# Altium schematic symbol library Symbol_library.SCHLIB: 171 symbols (part 1 of 2)
Pins are listed as number, name and electrical type; pins without a type are passive.

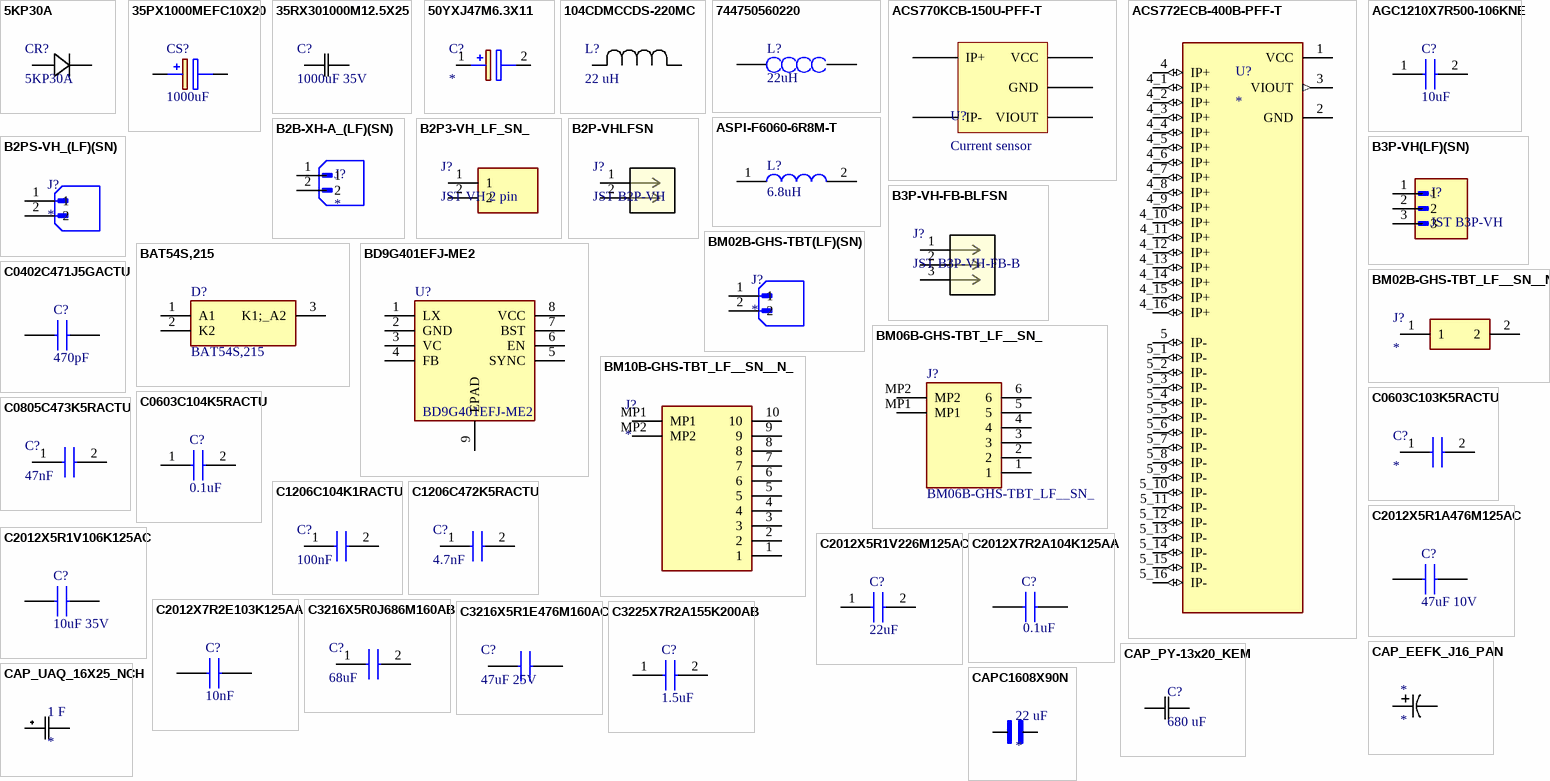
[diagram p0: symbols 5KP30A to CAPC1608X90N]

## 5KP30A
designator CR?
Description; Manufacturer_Name: Vishay; Copyright: Copyright (C) 2026 Ultra Librarian. All rights reserved.; Manufacturer_Part_Number: 5KP30A
footprint DIODE_P600_VIS (Footprint not found)
pins: 1, 2

## 35PX1000MEFC10X20
designator CS?, comment 1000uF
Capacitor Polarised; Manufacturer_Name: Rubycon; Manufacturer_Part_Number: 35PX1000MEFC10X20; Datasheet Link: https://www.rubycon.co.jp/wp-content/uploads/catalog-aluminum/PX.pdf; Height: 21.5mm; Mouser Part Number: 232-35PX1000MEFC10X2; Mouser Price/Stock: https://www.mouser.co.uk/ProductDetail/Rubycon/35PX1000MEFC10X20?qs=T3oQrply3y86%2F1qnNfO%252BAA%3D%3D; Arrow Part Number: 35PX1000MEFC10X20; Arrow Price/Stock: https://www.arrow.com/en/products/35px1000mefc10x20/rubycon?region=nac
footprint CAPPRD500W60D1025H2150
pins: 1 +, 2 -

## 35RX301000M12.5X25
designator C?, comment 1000uF 35V
Manufacturer_Name: Rubycon; Manufacturer_Part_Number: 35RX301000M12.5X25; Copyright: Copyright (C) 2026 Ultra Librarian. All rights reserved.
footprint CAP_RX_12P5X25_RUB (Footprint not found)
pins: 1, 2

## 50YXJ47M6.3X11
designator C?
Capacitor Polarised; Manufacturer_Name: Rubycon; Manufacturer_Part_Number: 50YXJ47M6.3X11; Datasheet Link: https://www.mouser.co.uk/datasheet/2/977/e_YXJ-1601195.pdf; Height: 12.5mm; Mouser Part Number: 232-50YXJ47M6.3X11; Mouser Price/Stock: https://www.mouser.co.uk/ProductDetail/Rubycon/50YXJ47M6.3X11?qs=T3oQrply3y9Y%2FB9KKPf5JQ%3D%3D
footprint CAPPRD250W50D655H1250
pins: 1 +, 2 -

## 104CDMCCDS-220MC
designator L?, comment 22 uH
Bobine de 22 uH, 5 A; Manufacturer_Name: Sumida; Manufacturer_Part_Number: 104CDMCCDS-220MC; Type: Fixed Inductors; Copyright: Copyright (C) 2025 Ultra Librarian. All rights reserved.; ComponentLink1Description: Datasheet; ComponentLink1URL: https://products.sumida.com/products/pdf/104CDMCCDS.pdf
footprint IND_104CDMCCDS_SUM
pins: 1, 2

## 744750560220
designator L?, comment 22uH
Inductor 22mH; Manufacturer_Name: Wurth Elektronik; Manufacturer_Part_Number: 744750560220; Datasheet Link: https://componentsearchengine.com/Datasheets/2/744750560220.pdf; Height: 15.8mm; Mouser Part Number: 710-744750560220; Mouser Price/Stock: https://www.mouser.co.uk/ProductDetail/Wurth-Elektronik/744750560220?qs=HXx4m3XcTe10itAwD7FiZQ%3D%3D; ClassName: PowerModul
footprint 744750560220
pins: 1, 2

## ACS770KCB-150U-PFF-T
designator U?, comment Current sensor
150 A , Unidirectional; ComponentLink1Description: Datasheet; ComponentLink1URL: https://www.allegromicro.com/~/media/Files/Datasheets/ACS770-Datasheet.ashx
footprint Model Name (Footprint not found)
footprint ACS770xCB-PFF - Sans Via-in-Pad (Current sensor)
pins: 1 VCC, 2 GND, 3 VIOUT, 4 IP+, 5 IP-

## ACS772ECB-400B-PFF-T
designator U?
Current Sensor 400A 1 Channel Hall Effect Bidirectional 5-CB Formed Leads, PFF; MF: Allegro MicroSystems; MP: ACS772ECB-400B-PFF-T; SnapEDA_Link: https://www.snapeda.com/parts/ACS772ECB-400B-PFF-T/Allegro/view-part/?ref=snap; Package: 5-CB-5 Allegro MicroSystems LLC; Value: *; Check_prices: https://www.snapeda.com/parts/ACS772ECB-400B-PFF-T/Allegro/view-part/?ref=eda
footprint XDCR_ACS772ECB-400B-PFF-T (Footprint not found)
pins: 1 VCC (power), 2 GND (power), 3 VIOUT (out), 4 IP+ (io), 4_1 IP+ (io), 4_2 IP+ (io), 4_3 IP+ (io), 4_4 IP+ (io), 4_5 IP+ (io), 4_6 IP+ (io), 4_7 IP+ (io), 4_8 IP+ (io), 4_9 IP+ (io), 4_10 IP+ (io), 4_11 IP+ (io), 4_12 IP+ (io), 4_13 IP+ (io), 4_14 IP+ (io), 4_15 IP+ (io), 4_16 IP+ (io), 5 IP- (io), 5_1 IP- (io), 5_2 IP- (io), 5_3 IP- (io), 5_4 IP- (io), 5_5 IP- (io), 5_6 IP- (io), 5_7 IP- (io), 5_8 IP- (io), 5_9 IP- (io), 5_10 IP- (io), 5_11 IP- (io), 5_12 IP- (io), 5_13 IP- (io), 5_14 IP- (io), 5_15 IP- (io), 5_16 IP- (io)

## AGC1210X7R500-106KNE
designator C?, comment 10uF
Capacitor; Manufacturer_Name: Venkel; Manufacturer_Part_Number: AGC1210X7R500-106KNE; Datasheet Link: https://data.venkel.com/documents/agc-series?force=1; Height: 2.8mm
footprint CAPC3225X280N (Footprint not found)
pins: 1, 2

## ASPI-F6060-6R8M-T
designator L?, comment 6.8uH
Inductor; Manufacturer_Name: ABRACON; Manufacturer_Part_Number: ASPI-F6060-6R8M-T; Datasheet Link: https://abracon.com/datasheets/ASPI-F6060.pdf; Height: 6mm
footprint ASPIF60606R8MT
pins: 1, 2

## B2B-XH-A_(LF)(SN)
designator J?
Connector Header Through Hole 2 position 0.098 (2.50mm); MF: JST Sales; MP: B2B-XH-A (LF)(SN); SnapEDA_Link: https://www.snapeda.com/parts/B2B-XH-A%20(LF)(SN)/JST+Sales+America+Inc./view-part/?ref=snap; Package: None; Value: *; Check_prices: https://www.snapeda.com/parts/B2B-XH-A%20(LF)(SN)/JST+Sales+America+Inc./view-part/?ref=eda
footprint JST_B2B-XH-A_(LF)(SN)
pins: 1, 2

## B2P3-VH_LF_SN_
designator J?, comment JST VH 2 pin
Connector; Manufacturer_Name: JST (JAPAN SOLDERLESS TERMINALS); Manufacturer_Part_Number: B2P3-VH(LF(SN); Datasheet Link: https://www.jst-mfg.com/product/pdf/eng/eVH.pdf; Height: 10.9mm; Arrow Part Number: B2P3-VH(LF(SN); Arrow Price/Stock: https://www.arrow.com/en/products/b2p3-vh-lf-sn/jst-manufacturing?utm_currency=USD&region=europe
footprint SHDR2W114P0X792_1X2_1182X850X1090P
pins: 1, 2

## B2P-VHLFSN
designator J?, comment JST B2P-VH
JST VH 2 pin; Manufacturer_Part_Number: B2P-VH(LF)(SN); Copyright: Copyright (C) 2025 Ultra Librarian. All rights reserved.; Manufacturer_Name: JST; RefDes: RefDes; Type: Type
footprint CONN_B2P-VH_JST (Footprint not found)
pins: 1, 2

## B2PS-VH_(LF)(SN)
designator J?
Connector Header Through Hole, Right Angle 2 position 0.156 (3.96mm); MF: JST; MP: B2PS-VH (LF)(SN); SnapEDA_Link: https://www.snapeda.com/parts/B2PS-VH%20(LF)(SN)/JST/view-part/?ref=snap; Package: None; Value: *; Check_prices: https://www.snapeda.com/parts/B2PS-VH%20(LF)(SN)/JST/view-part/?ref=eda
footprint JST_B2PS-VH_(LF)(SN)
pins: 1, 2

## B3P-VH(LF)(SN)
designator J?, comment JST B3P-VH
JST VH 3 PIN; MF: JST Sales; MP: B3P-VH(LF)(SN); SnapEDA_Link: https://www.snapeda.com/parts/B3P-VH(LF)(SN)/JST/view-part/?ref=snap; Package: None; Value: *; Check_prices: https://www.snapeda.com/parts/B3P-VH(LF)(SN)/JST/view-part/?ref=eda
footprint JST_B3P-VH(LF)(SN)
pins: 1, 2, 3

## B3P-VH-FB-BLFSN
designator J?, comment JST B3P-VH-FB-B
JST VH-FB-B 3 pin; Manufacturer_Part_Number: B3P-VH-FB-B(LF)(SN); Copyright: Copyright (C) 2025 Ultra Librarian. All rights reserved.; Manufacturer_Name: JST; RefDes: RefDes; Type: Type
footprint CONN_B3P-VH-FB-B_JST (Footprint not found)
pins: 1, 2, 3

## BAT54S,215
designator D?
Schottky Diode; Manufacturer_Name: Nexperia; Datasheet Link: https://assets.nexperia.com/documents/data-sheet/BAT54S.pdf; Height: 1.1mm; Manufacturer_Part_Number: BAT54S,215; Mouser Part Number: 771-BAT54S-T/R; Mouser Price/Stock: https://www.mouser.co.uk/ProductDetail/Nexperia/BAT54S215?qs=me8TqzrmIYVOaf3j7zH0Wg%3D%3D; Arrow Part Number: BAT54S,215; Arrow Price/Stock: https://www.arrow.com/en/products/bat54s215/nexperia?utm_currency=USD&region=europe
footprint SOT95P230X110-3N
pins: 1 A1, 2 K2, 3 K1;_A2

## BD9G401EFJ-ME2
designator U?
Buck converter; Manufacturer_Name: ROHM Semiconductor; Datasheet Link: https://componentsearchengine.com/Datasheets/1/BD9G401EFJ-ME2.pdf; Height: 1mm; Manufacturer_Part_Number: BD9G401EFJ-ME2; Mouser Part Number: 755-BD9G401EFJ-ME2; Mouser Price/Stock: https://www.mouser.co.uk/ProductDetail/ROHM-Semiconductor/BD9G401EFJ-ME2?qs=HXFqYaX1Q2yXryPBxafgDg%3D%3D; ClassName: PowerModul
footprint SOIC127P600X100-9N
pins: 1 LX, 2 GND, 3 VC, 4 FB, 5 SYNC, 6 EN, 7 BST, 8 VCC, 9 EPAD

## BM02B-GHS-TBT(LF)(SN)
designator J?
Connector Header Surface Mount 2 position 0.049 (1.25mm); MF: JST Sales; MP: BM02B-GHS-TBT (LF)(SN); SnapEDA_Link: https://www.snapeda.com/parts/BM02B-GHS-TBT%20(LF)(SN)/JST/view-part/?ref=snap; Package: None; Value: *; Check_prices: https://www.snapeda.com/parts/BM02B-GHS-TBT%20(LF)(SN)/JST/view-part/?ref=eda
footprint JST_BM02B-GHS-TBT(LF)(SN)
pins: 1, 2

## BM02B-GHS-TBT_LF__SN__N_
designator J?
Connector; Manufacturer_Name: JST (JAPAN SOLDERLESS TERMINALS); Manufacturer_Part_Number: BM02B-GHS-TBT(LF)(SN)(N); Datasheet Link: http://www.jst-mfg.com/product/pdf/eng/eGH.pdf; Arrow Part Number: BM02B-GHS-TBT(LF)(SN)(N); Arrow Price/Stock: https://www.arrow.com/en/products/bm02b-ghs-tbt-lf-sn-n/jst-manufacturing?region=nac
footprint BM02B-GHS-TBT_1
pins: 1, 2

## BM06B-GHS-TBT_LF__SN_
designator J?
Connector; Manufacturer_Name: JST (JAPAN SOLDERLESS TERMINALS); Manufacturer_Part_Number: BM06B-GHS-TBT(LF)(SN); Datasheet Link: https://datasheet.lcsc.com/szlcsc/2004111131_JST-Sales-America-BM06B-GHS-TBT-LF-SN_C495534.pdf; Height: 4.05mm; Mouser Part Number: 306-BM06BGHSTBTLFSNN; Mouser Price/Stock: https://www.mouser.co.uk/ProductDetail/JST-Commercial/BM06B-GHS-TBTLFSN?qs=cdbOS8ANM9CObKjnhD04mw%3D%3D
footprint BM06BGHSTBTLFSN
pins: 1, 2, 3, 4, 5, 6, MP1, MP2

## BM10B-GHS-TBT_LF__SN__N_
designator J?
Connector; Manufacturer_Name: JST (JAPAN SOLDERLESS TERMINALS); Manufacturer_Part_Number: BM10B-GHS-TBT(LF)(SN)(N); Datasheet Link: http://www.jst-mfg.com/product/pdf/eng/eGH.pdf; Height: 4.05mm; Arrow Part Number: BM10B-GHS-TBT(LF)(SN)(N); Arrow Price/Stock: https://www.arrow.com/en/products/bm10b-ghs-tbt-lf-sn-n/jst-manufacturing?utm_currency=USD&region=europe
footprint BM10BGHSTBTLFSNN
pins: 1, 2, 3, 4, 5, 6, 7, 8, 9, 10, MP1, MP2

## C0402C471J5GACTU
designator C?, comment 470pF
Capacitor; Manufacturer_Name: KEMET; Manufacturer_Part_Number: C0402C471J5GACTU; Datasheet Link: https://content.kemet.com/datasheets/KEM_C1002_X7R_SMD.pdf; Height: 0.55mm; Mouser Part Number: 80-C0402C471J5G; Mouser Price/Stock: https://www.mouser.com/Search/Refine.aspx?Keyword=80-C0402C471J5G; Arrow Part Number: C0402C471J5GACTU; Arrow Price/Stock: https://www.arrow.com/en/products/c0402c471j5gactu/kemet-corporation
footprint C0402C104J4RACTU
pins: 1, 2

## C0603C103K5RACTU
designator C?
Capacitor; Manufacturer_Name: KEMET; Manufacturer_Part_Number: C0603C103K5RACTU; Datasheet Link: https://content.kemet.com/datasheets/KEM_C1002_X7R_SMD.pdf; Height: 0.87mm; Mouser Part Number: 80-C0603C103K5R; Mouser Price/Stock: https://www.mouser.co.uk/ProductDetail/KEMET/C0603C103K5RACTU?qs=aZBT8IJKz4hu1X55tMAU6Q%3D%3D; Arrow Part Number: C0603C103K5RACTU; Arrow Price/Stock: https://www.arrow.com/en/products/c0603c103k5ractu/kemet-corporation?utm_currency=USD&region=nac
footprint C0603
pins: 1, 2

## C0603C104K5RACTU
designator C?, comment 0.1uF
Capacitor; Manufacturer_Name: KEMET; Manufacturer_Part_Number: C0603C104K5RACTU; Datasheet Link: https://content.kemet.com/datasheets/KEM_C1002_X7R_SMD.pdf; Height: 0.87mm; Mouser Part Number: 80-C0603C104K5R; Mouser Price/Stock: https://www.mouser.co.uk/ProductDetail/KEMET/C0603C104K5RACTU?qs=l5k%252BbMnNDkkVcnZPSAaaiQ%3D%3D; Arrow Part Number: C0603C104K5RACTU; Arrow Price/Stock: https://www.arrow.com/en/products/c0603c104k5ractu/kemet-corporation?utm_currency=USD&region=nac
footprint C0603 (Footprint not found)
pins: 1, 2

## C0805C473K5RACTU
designator C?, comment 47nF
Capacitor; Manufacturer_Name: KEMET; Manufacturer_Part_Number: C0805C473K5RACTU; Datasheet Link: https://content.kemet.com/datasheets/KEM_C1002_X7R_SMD.pdf; Height: 1.1mm; Mouser Part Number: 80-C0805C473K5R; Mouser Price/Stock: https://www.mouser.co.uk/ProductDetail/KEMET/C0805C473K5RACTU?qs=Uoqk2AqgWNqGMH8rYaKw2g%3D%3D; Arrow Part Number: C0805C473K5RACTU; Arrow Price/Stock: https://www.arrow.com/en/products/c0805c473k5ractu/kemet-corporation?region=nac
footprint CAPC220145_90N_KEM-M
pins: 1, 2

## C1206C104K1RACTU
designator C?, comment 100nF
Capacitor, 100V max; Manufacturer_Name: KEMET; Manufacturer_Part_Number: C1206C104K1RACTU; Datasheet Link: https://content.kemet.com/datasheets/KEM_C1002_X7R_SMD.pdf; Mouser Part Number: 80-C1206C104K1R; Mouser Price/Stock: https://www.mouser.co.uk/ProductDetail/KEMET/C1206C104K1RACTU?qs=zXJuHl05TF3PSnPdHxXWPA%3D%3D; Arrow Part Number: C1206C104K1RACTU; Arrow Price/Stock: https://www.arrow.com/en/products/c1206c104k1ractu/kemet-corporation?region=nac
footprint C1206
pins: 1, 2

## C1206C472K5RACTU
designator C?, comment 4.7nF
Capacitor, 50V max; Manufacturer_Name: KEMET; Manufacturer_Part_Number: C1206C472K5RACTU; Datasheet Link: https://content.kemet.com/datasheets/KEM_C1002_X7R_SMD.pdf; Mouser Part Number: 80-C1206C472K5R; Mouser Price/Stock: https://www.mouser.co.uk/ProductDetail/KEMET/C1206C472K5RACTU?qs=mFbQsTr%2Fh7%2F0OG5diKY6aA%3D%3D; Arrow Part Number: C1206C472K5RACTU; Arrow Price/Stock: https://www.arrow.com/en/products/c1206c472k5ractu/kemet-corporation?utm_currency=USD&region=nac
footprint C1206
pins: 1, 2

## C2012X5R1A476M125AC
designator C?, comment 47uF 10V
Capacitor; Manufacturer_Name: TDK; Manufacturer_Part_Number: C2012X5R1A476M125AC; Datasheet Link: https://product.tdk.com/info/en/catalog/datasheets/mlcc_commercial_midvoltage_en.pdf; Height: 1.45mm; Mouser Part Number: 810-C2012X5R1A476M; Mouser Price/Stock: https://www.mouser.co.uk/ProductDetail/TDK/C2012X5R1A476M125AC?qs=LcTL%2F5vFEzGyFw5hxP%2FMXw%3D%3D; Arrow Part Number: C2012X5R1A476M125AC; Arrow Price/Stock: https://www.arrow.com/en/products/c2012x5r1a476m125ac/tdk?region=nac; ClassName: PowerModul
footprint CAPC2012X145N
pins: 1, 2

## C2012X5R1V106K125AC
designator C?, comment 10uF 35V
Capacitor; Manufacturer_Name: TDK; Manufacturer_Part_Number: C2012X5R1V106K125AC; Datasheet Link: https://product.tdk.com/info/en/catalog/datasheets/mlcc_commercial_midvoltage_en.pdf; Height: 1.45mm; Mouser Part Number: 810-C2012X5R1V106K1C; Mouser Price/Stock: https://www.mouser.co.uk/ProductDetail/TDK/C2012X5R1V106K125AC?qs=6JAMGB%252BEdkwcwonKbQLeCg%3D%3D; Arrow Part Number: C2012X5R1V106K125AC; Arrow Price/Stock: https://www.arrow.com/en/products/c2012x5r1v106k125ac/tdk?region=europe; ClassName: PowerModul
footprint CAPC2012X145N
pins: 1, 2

## C2012X5R1V226M125AC
designator C?, comment 22uF
Capacitor, 35V; Manufacturer_Name: TDK; Manufacturer_Part_Number: C2012X5R1V226M125AC; Datasheet Link: https://product.tdk.com/info/en/catalog/datasheets/mlcc_commercial_midvoltage_en.pdf; Height: 1.45mm; Mouser Part Number: 810-C2012X5R1V226MAC; Mouser Price/Stock: https://www.mouser.co.uk/ProductDetail/TDK/C2012X5R1V226M125AC?qs=6JAMGB%252BEdkyUk0d2Mu2IrQ%3D%3D; Arrow Part Number: C2012X5R1V226M125AC; Arrow Price/Stock: https://www.arrow.com/en/products/c2012x5r1v226m125ac/tdk?utm_currency=USD&region=nac
footprint CAPC2012X145N
pins: 1, 2

## C2012X7R2A104K125AA
designator C?, comment 0.1uF
Capacitor; Manufacturer_Name: TDK; Manufacturer_Part_Number: C2012X7R2A104K125AA; Datasheet Link: https://product.tdk.com/info/en/catalog/datasheets/mlcc_commercial_midvoltage_en.pdf; Height: 1.45mm; Mouser Part Number: 810-C2012X7R2A104K; Mouser Price/Stock: https://www.mouser.co.uk/ProductDetail/TDK/C2012X7R2A104K125AA?qs=NRhsANhppD9J0ZsT2%2Fo%2F7Q%3D%3D; Arrow Part Number: C2012X7R2A104K125AA; Arrow Price/Stock: https://www.arrow.com/en/products/c2012x7r2a104k125aa/tdk?region=europe; ClassName: PowerModul
footprint CAPC2012X145N
pins: 1, 2

## C2012X7R2E103K125AA
designator C?, comment 10nF
Capacitor; Manufacturer_Name: TDK; Manufacturer_Part_Number: C2012X7R2E103K125AA; Datasheet Link: https://product.tdk.com/info/en/catalog/datasheets/mlcc_commercial_midvoltage_en.pdf; Height: 1.45mm; Mouser Part Number: 810-C2012X7R2E103K; Mouser Price/Stock: https://www.mouser.co.uk/ProductDetail/TDK/C2012X7R2E103K125AA?qs=NRhsANhppD%2FvPjIeAxskbg%3D%3D; Arrow Part Number: C2012X7R2E103K125AA; Arrow Price/Stock: https://www.arrow.com/en/products/c2012x7r2e103k125aa/tdk?region=nac; ClassName: PowerModul
footprint CAPC2012X145N
pins: 1, 2

## C3216X5R0J686M160AB
designator C?, comment 68uF
Capacitor de 68uF; Manufacturer_Name: TDK; Manufacturer_Part_Number: C3216X5R0J686M160AB; Datasheet Link: https://product.tdk.com/info/en/catalog/datasheets/mlcc_commercial_midvoltage_en.pdf; Height: 1.8mm; Mouser Part Number: 810-C3216X5R0J686M1B; Mouser Price/Stock: https://www.mouser.co.uk/ProductDetail/TDK/C3216X5R0J686M160AB?qs=xLDY6iXSiQYzVupG6zVrXw%3D%3D; Arrow Part Number: C3216X5R0J686M160AB; Arrow Price/Stock: https://www.arrow.com/en/products/c3216x5r0j686m160ab/tdk?utm_currency=USD&region=nac
footprint CAPC3216X180N
pins: 1, 2

## C3216X5R1E476M160AC
designator C?, comment 47uF 25V
Capacitor 47 uF; Manufacturer_Name: TDK; Manufacturer_Part_Number: C3216X5R1E476M160AC.; Datasheet Link: https://media.digikey.com/pdf/Data%20Sheets/TDK%20PDFs/mlcc_commercial_general_Rev2018.pdf; Height: 1.8mm; Mouser Part Number: N/A; Mouser Price/Stock: https://www.mouser.com/Search/Refine.aspx?Keyword=N%2FA
footprint CAPC3216X180N
pins: 1, 2

## C3225X7R2A155K200AB
designator C?, comment 1.5uF
Capacitor; Manufacturer_Name: TDK; Manufacturer_Part_Number: C3225X7R2A155K200AB; Datasheet Link: https://product.tdk.com/info/en/catalog/datasheets/mlcc_commercial_midvoltage_en.pdf; Height: 2mm; Mouser Part Number: 810-C3225X7R2A155K2B; Mouser Price/Stock: https://www.mouser.co.uk/ProductDetail/TDK/C3225X7R2A155K200AB?qs=xLDY6iXSiQYhBLhobQfC5A%3D%3D; Arrow Part Number: C3225X7R2A155K200AB; Arrow Price/Stock: https://www.arrow.com/en/products/c3225x7r2a155k200ab/tdk
footprint CAPC3225X200N (Footprint not found)
pins: 1, 2

## CAP_EEFK_J16_PAN
designator *
Capacitor 680 uF Polarized
footprint CAP_EEFK_J16_PAN
pins: 1, 2

## CAP_PY-13x20_KEM
designator C?, comment 680 uF
680 uF Capacitor Through Hole; ComponentLink1Description: Manufacturer Link; ComponentLink1URL: https://www.digikey.ca/fr/products/detail/kemet/A759PY687M1HAAE026/6196519?s=N4IgjCBcoEwAwBYCcVQGMoDMCGAbAzgKYA0IA9lANogBsAHHAAQCtAYiALqkAOALlCACqAOwCWvAPKYAsoWz4ArgCdCIAL6l4AdhTQQGSDgIlyVEAFYmANU49%2BkIWMky5iletIBaGKn1ReSgomFJDU5pxqGiA%2BofrY3Nho4mRKEUA
footprint CAP_PY-13x20_KEM
pins: 1, 2

## CAP_UAQ_16X25_NCH
designator 1 F
Capacitor 1000 uF; ComponentLink1Description: Manufacturer Link; ComponentLink1URL: https://www.digikey.ca/en/products/detail/nichicon/UBT1V102MHD8/2597431?utm_source=chatgpt.com
footprint CAP_UAQ_16X25_NCH
pins: 1, 2

## CAPC1608X90N
designator 22 uF
Capacitor Ceramic 1 uF 50 V; ComponentLink1Description: Manufacturer Link; ComponentLink1URL: https://www.digikey.ca/fr/products/detail/samsung-electro-mechanics/CL10A105KB8NNNC/3887518?msockid=24619636816564831ea7832b805e650e
footprint CAPC1608X90N
pins: 1, 2

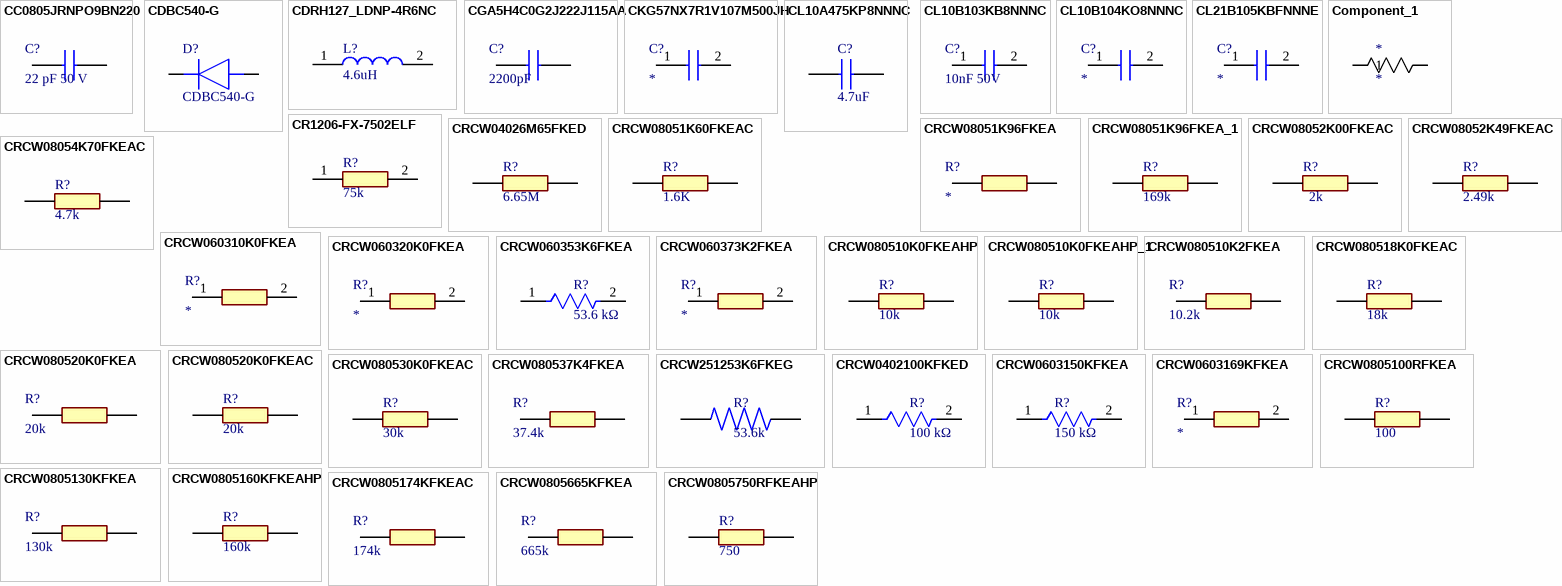
[diagram p1: symbols CC0805JRNPO9BN220 to CRCW0805750RFKEAHP]

## CC0805JRNPO9BN220
designator C?, comment 22 pF 50 V
Capacitor; Manufacturer_Name: YAGEO; Manufacturer_Part_Number: CC0805JRNPO9BN220; Datasheet Link: https://componentsearchengine.com/Datasheets/2/CC0805JRNPO9BN220.pdf; Height: 0.7mm; Mouser Part Number: 603-CC805JRNPO9BN220; Mouser Price/Stock: https://www.mouser.co.uk/ProductDetail/YAGEO/CC0805JRNPO9BN220?qs=vTakOoo5QyK71b5vkghGmg%3D%3D
footprint CAPC2012X70N (Footprint not found)
pins: 1, 2

## CDBC540-G
designator D?
Diode; Manufacturer_Name: Comchip Technology; Datasheet Link: https://eu.mouser.com/datasheet/2/80/CDBC520-HF_Thru195340._CDBC5100-HF_RevB-1480991.pdf; Height: 2.9mm; Manufacturer_Part_Number: CDBC540-G; Mouser Part Number: 750-CDBC540-G; Mouser Price/Stock: https://www.mouser.co.uk/ProductDetail/Comchip-Technology/CDBC540-G?qs=tw%252BuQ%2FB6PO2ExpPYY64Vzw%3D%3D; Arrow Part Number: CDBC540-G; Arrow Price/Stock: https://www.arrow.com/en/products/cdbc540-g/comchip-technology?utm_currency=USD&region=nac
footprint DIOM8059X290N
pins: 1 K, 2 A

## CDRH127_LDNP-4R6NC
designator L?, comment 4.6uH
Inductor; Manufacturer_Name: Sumida; Manufacturer_Part_Number: CDRH127/LDNP-4R6NC; Datasheet Link: https://datasheet.datasheetarchive.com/originals/distributors/Datasheets-DGA11/2188085.pdf; Height: 8mm; Mouser Part Number: 851-CDRH127LDNP4R6NC; Mouser Price/Stock: https://www.mouser.co.uk/ProductDetail/Sumida/CDRH127-LDNP-4R6NC?qs=WUEw9%252Ba7LqamztZJnA%2FuRg%3D%3D; Arrow Part Number: CDRH127/LDNP-4R6NC; Arrow Price/Stock: https://www.arrow.com/en/products/cdrh127ldnp-4r6nc/sumida?utm_currency=USD&region=nac
footprint INDM120120X800N
pins: 1, 2

## CGA5H4C0G2J222J115AA
designator C?, comment 2200pF
Capacitor 2200pF 630V; Manufacturer_Name: TDK; Manufacturer_Part_Number: CGA5H4C0G2J222J115AA; Datasheet Link: http://docs-europe.electrocomponents.com/webdocs/14e9/0900766b814e9125.pdf; Height: 1.3mm
footprint CAPC3216X130N
pins: 1, 2

## CKG57NX7R1V107M500JH
designator C?
Capacitor; Manufacturer_Name: TDK; Manufacturer_Part_Number: CKG57NX7R1V107M500JH; Datasheet Link: https://product.tdk.com/system/files/dam/doc/product/capacitor/ceramic/mlcc/catalog/mlcc_commercial_megacap_en.pdf; Height: 5.5mm; Mouser Part Number: 810-CKG57NX7R1V107M5; Mouser Price/Stock: https://www.mouser.co.uk/ProductDetail/TDK/CKG57NX7R1V107M500JH?qs=Rp5uXu7WBW8tv2hUloxhjw%3D%3D; Arrow Part Number: CKG57NX7R1V107M500JH; Arrow Price/Stock: null?region=nac
footprint CAPC6050X550N (Footprint not found)
pins: 1, 2

## CL10A475KP8NNNC
designator C?, comment 4.7uF
Capacitor; Manufacturer_Name: SAMSUNG; Manufacturer_Part_Number: CL10A475KP8NNNC; Datasheet Link: https://www.arrow.com/en/products/cl10a475kp8nnnc/samsung-electro-mechanics; Height: 0.9mm; Mouser Part Number: 187-CL10A475KP8NNNC; Mouser Price/Stock: https://www.mouser.co.uk/ProductDetail/Samsung-Electro-Mechanics/CL10A475KP8NNNC?qs=hqM3L16%252BxlfQRmkWsZz5vA%3D%3D; Arrow Part Number: CL10A475KP8NNNC; Arrow Price/Stock: https://www.arrow.com/en/products/cl10a475kp8nnnc/samsung-electro-mechanics?region=nac
footprint CAPC1608X90N
pins: 1, 2

## CL10B103KB8NNNC
designator C?, comment 10nF 50V
Capacitor; Manufacturer_Name: SAMSUNG; Manufacturer_Part_Number: CL10B103KB8NNNC; Datasheet Link: https://product.samsungsem.com/mlcc/CL10B103KB8NNN.do; Height: 0.9mm; Mouser Part Number: 187-CL10B103KB8NNNC; Mouser Price/Stock: https://www.mouser.co.uk/ProductDetail/Samsung-Electro-Mechanics/CL10B103KB8NNNC?qs=349EhDEZ59pAsZxZjVI0UQ%3D%3D; Arrow Part Number: CL10B103KB8NNNC; Arrow Price/Stock: https://www.arrow.com/en/products/cl10b103kb8nnnc/samsung-electro-mechanics?utm_currency=USD&region=europe
footprint CAPC1608X90N
pins: 1, 2

## CL10B104KO8NNNC
designator C?
Capacitor; Manufacturer_Name: SAMSUNG; Manufacturer_Part_Number: CL10B104KO8NNNC; Datasheet Link: https://datasheet.datasheetarchive.com/originals/distributors/Datasheets_SAMA/482ee8b8a1396945e1abac0da9778f7f.pdf; Height: 0.9mm; Mouser Part Number: 187-CL10B104KO8NNNC; Mouser Price/Stock: https://www.mouser.co.uk/ProductDetail/Samsung-Electro-Mechanics/CL10B104KO8NNNC?qs=349EhDEZ59pqoJFRnk4a8w%3D%3D; Arrow Part Number: CL10B104KO8NNNC; Arrow Price/Stock: https://www.arrow.com/en/products/cl10b104ko8nnnc/samsung-electro-mechanics?utm_currency=USD&region=europe
footprint CAPC1608X90N
pins: 1, 2

## CL21B105KBFNNNE
designator C?
Capacitor; Manufacturer_Name: SAMSUNG; Manufacturer_Part_Number: CL21B105KBFNNNE; Datasheet Link: https://componentsearchengine.com/Datasheets/2/CL21B105KBFNNNE.pdf; Height: 1.35mm; Mouser Part Number: 187-CL21B105KBFNNNE; Mouser Price/Stock: https://www.mouser.co.uk/ProductDetail/Samsung-Electro-Mechanics/CL21B105KBFNNNE?qs=yOVawPpwOwmddQEBPU6Y9A%3D%3D; Arrow Part Number: CL21B105KBFNNNE; Arrow Price/Stock: https://www.arrow.com/en/products/cl21b105kbfnnne/samsung-electro-mechanics?utm_currency=USD&region=europe
footprint CAPC2012X135N
pins: 1, 2

## Component_1
designator *
footprint STA_RMCF0402_STP
pins: 1, 2

## CR1206-FX-7502ELF
designator R?, comment 75k
Resistor; Manufacturer_Name: Bourns; Manufacturer_Part_Number: CR1206-FX-7502ELF; Datasheet Link: http://www.bourns.com/data/global/pdfs/CHPREZTR.pdf; Height: 0.75mm; Mouser Part Number: 652-CR1206FX-7502ELF; Mouser Price/Stock: https://www.mouser.co.uk/ProductDetail/Bourns/CR1206-FX-7502ELF?qs=x5wsLs3ZZ83CFlrcVX0CWw%3D%3D
footprint RESC3216X75N
pins: 1, 2

## CRCW04026M65FKED
designator R?, comment 6.65M
Resistor; Manufacturer_Name: Vishay; Manufacturer_Part_Number: CRCW04026M65FKED; Datasheet Link: http://www.vishay.com/docs/20035/dcrcwe3.pdf; Height: 0.4mm
footprint RESC1005X40N
pins: 1, 2

## CRCW08051K60FKEAC
designator R?, comment 1.6K
Resistor; Manufacturer_Name: Vishay; Manufacturer_Part_Number: CRCW08051K60FKEAC; Datasheet Link: https://www.arrow.com/en/products/crcw08051k60fkeac/vishay; Height: 0.6mm; Mouser Part Number: 71-CRCW08051K60FKEAC; Mouser Price/Stock: https://www.mouser.co.uk/ProductDetail/Vishay-Dale/CRCW08051K60FKEAC?qs=E3Y5ESvWgWMJaZYHQus8LQ%3D%3D; Arrow Part Number: CRCW08051K60FKEAC; Arrow Price/Stock: https://www.arrow.com/en/products/crcw08051k60fkeac/vishay
footprint RESC2012X60N
pins: 1, 2

## CRCW08051K96FKEA
designator R?
Resistor; Manufacturer_Name: Vishay; Manufacturer_Part_Number: CRCW08051K96FKEA; Datasheet Link: http://www.vishay.com/docs/20035/dcrcwe3.pdf; Height: 0.5mm; Mouser Part Number: 71-CRCW08051K96FKEA; Mouser Price/Stock: https://www.mouser.co.uk/ProductDetail/Vishay-Dale/CRCW08051K96FKEA?qs=1CkV0QOCgMpA%2F6GTgXIN%2Fg%3D%3D; Arrow Part Number: CRCW08051K96FKEA; Arrow Price/Stock: https://www.arrow.com/en/products/crcw08051k96fkea/vishay?region=nac
footprint RESC2012X50N
pins: 1, 2

## CRCW08051K96FKEA_1
designator R?, comment 169k
Resistor; Manufacturer_Name: Vishay; Manufacturer_Part_Number: CRCW08051K96FKEA; Datasheet Link: http://www.vishay.com/docs/20035/dcrcwe3.pdf; Height: 0.5mm; Mouser Part Number: 71-CRCW08051K96FKEA; Mouser Price/Stock: https://www.mouser.co.uk/ProductDetail/Vishay-Dale/CRCW08051K96FKEA?qs=1CkV0QOCgMpA%2F6GTgXIN%2Fg%3D%3D; Arrow Part Number: CRCW08051K96FKEA; Arrow Price/Stock: https://www.arrow.com/en/products/crcw08051k96fkea/vishay?region=nac
footprint RESC2012X50N
pins: 1, 2

## CRCW08052K00FKEAC
designator R?, comment 2k
Resistor; Manufacturer_Name: Vishay; Manufacturer_Part_Number: CRCW08052K00FKEAC; Datasheet Link: http://www.vishay.com/docs/28773/crcwce3.pdf; Height: 0.6mm; Mouser Part Number: 71-CRCW08052K00FKEAC; Mouser Price/Stock: https://www.mouser.co.uk/ProductDetail/Vishay-Dale/CRCW08052K00FKEAC?qs=E3Y5ESvWgWP6floxGsbShA%3D%3D; Arrow Part Number: CRCW08052K00FKEAC; Arrow Price/Stock: https://www.arrow.com/en/products/crcw08052k00fkeac/vishay?utm_currency=USD&region=nac
footprint RESC2012X60N
pins: 1, 2

## CRCW08052K49FKEAC
designator R?, comment 2.49k
Resistor; Manufacturer_Name: Vishay; Manufacturer_Part_Number: CRCW08052K49FKEAC; Datasheet Link: https://componentsearchengine.com/Datasheets/1/CRCW08052K49FKEAC.pdf; Height: 0.5mm; Mouser Part Number: 71-CRCW08052K49FKEAC; Mouser Price/Stock: https://www.mouser.com/Search/Refine.aspx?Keyword=71-CRCW08052K49FKEAC; Arrow Part Number: CRCW08052K49FKEAC; Arrow Price/Stock: https://www.arrow.com/en/products/crcw08052k49fkeac/vishay
footprint RESC2012X50N
pins: 1, 2

## CRCW08054K70FKEAC
designator R?, comment 4.7k
Resistor; Manufacturer_Name: Vishay; Manufacturer_Part_Number: CRCW08054K70FKEAC; Datasheet Link: https://mouser.componentsearchengine.com/Datasheets/1/CRCW08054K70FKEAC.pdf; Height: 0.6mm; Mouser Part Number: 71-CRCW08054K70FKEAC; Mouser Price/Stock: https://www.mouser.co.uk/ProductDetail/Vishay-Dale/CRCW08054K70FKEAC?qs=E3Y5ESvWgWOQAAVugewEHA%3D%3D; Arrow Part Number: CRCW08054K70FKEAC; Arrow Price/Stock: https://www.arrow.com/en/products/crcw08054k70fkeac/vishay?region=nac; ClassName: PowerModul
footprint RESC2012X60N
pins: 1, 2

## CRCW060310K0FKEA
designator R?
Resistor; Manufacturer_Name: Vishay; Manufacturer_Part_Number: CRCW060310K0FKEA; Datasheet Link: http://www.vishay.com/docs/20035/dcrcwe3.pdf; Height: 0.5mm; Mouser Part Number: 71-CRCW0603-10K-E3; Mouser Price/Stock: https://www.mouser.co.uk/ProductDetail/Vishay-Dale/CRCW060310K0FKEA?qs=pAO1Z172M84BVnhDjtnsoQ%3D%3D; Arrow Part Number: CRCW060310K0FKEA; Arrow Price/Stock: https://www.arrow.com/en/products/crcw060310k0fkea/vishay.html?utm_currency=USD&region=nac
footprint RESC1608X50N
pins: 1, 2

## CRCW060320K0FKEA
designator R?
Resistor; Manufacturer_Name: Vishay; Manufacturer_Part_Number: CRCW060320K0FKEA; Datasheet Link: http://www.vishay.com/docs/20035/dcrcwe3.pdf; Height: 0.5mm; Mouser Part Number: 71-CRCW0603-20K-E3; Mouser Price/Stock: https://www.mouser.co.uk/ProductDetail/Vishay-Dale/CRCW060320K0FKEA?qs=QZuYiDxzHajCQLs7n6RwKw%3D%3D; Arrow Part Number: CRCW060320K0FKEA; Arrow Price/Stock: https://www.arrow.com/en/products/crcw060320k0fkea/vishay?utm_currency=USD&region=nac
footprint RESC1608X50N
pins: 1, 2

## CRCW060353K6FKEA
designator R?, comment 53.6 kΩ
footprint CRCW060353K6FKEA
pins: 1, 2

## CRCW060373K2FKEA
designator R?
Resistor; Manufacturer_Name: Vishay; Manufacturer_Part_Number: CRCW060373K2FKEA; Datasheet Link: http://www.vishay.com/docs/20035/dcrcwe3.pdf; Height: 0.5mm; Mouser Part Number: 71-CRCW0603-73.2K-E3; Mouser Price/Stock: https://www.mouser.co.uk/ProductDetail/Vishay-Dale/CRCW060373K2FKEA?qs=wtKLRx7HFiWbNo88VwpoiQ%3D%3D; Arrow Part Number: CRCW060373K2FKEA; Arrow Price/Stock: https://www.arrow.com/en/products/crcw060373k2fkea/vishay?region=nac
footprint RESC1608X50N
pins: 1, 2

## CRCW080510K0FKEAHP
designator R?, comment 10k
Resistor; Manufacturer_Name: Vishay; Manufacturer_Part_Number: CRCW080510K0FKEAHP; Datasheet Link: https://componentsearchengine.com/Datasheets/1/CRCW08051R00FKEAHP.pdf; Height: 0.6mm; Mouser Part Number: 71-CRCW080510K0FKEAH; Mouser Price/Stock: https://www.mouser.co.uk/ProductDetail/Vishay-Dale/CRCW080510K0FKEAHP?qs=FlFvgi4rxBybVOW6oiRQjA%3D%3D; Arrow Part Number: CRCW080510K0FKEAHP; Arrow Price/Stock: https://www.arrow.com/en/products/crcw080510k0fkeahp/vishay?utm_currency=USD&region=europe; ClassName: PowerModul
footprint RESC2012X60N
pins: 1, 2

## CRCW080510K0FKEAHP_1
designator R?, comment 10k
Resistor; Manufacturer_Name: Vishay; Manufacturer_Part_Number: CRCW080510K0FKEAHP; Datasheet Link: https://componentsearchengine.com/Datasheets/1/CRCW08051R00FKEAHP.pdf; Height: 0.6mm; Mouser Part Number: 71-CRCW080510K0FKEAH; Mouser Price/Stock: https://www.mouser.co.uk/ProductDetail/Vishay-Dale/CRCW080510K0FKEAHP?qs=FlFvgi4rxBybVOW6oiRQjA%3D%3D; Arrow Part Number: CRCW080510K0FKEAHP; Arrow Price/Stock: https://www.arrow.com/en/products/crcw080510k0fkeahp/vishay?utm_currency=USD&region=europe; ClassName: PowerModul
footprint RESC2012X60N
pins: 1, 2

## CRCW080510K2FKEA
designator R?, comment 10.2k
Resistor; Manufacturer_Name: Vishay; Manufacturer_Part_Number: CRCW080510K2FKEA; Datasheet Link: http://www.vishay.com/docs/20035/dcrcwe3.pdf; Height: 0.5mm; Mouser Part Number: 71-CRCW0805-10.2K-E3; Mouser Price/Stock: https://www.mouser.co.uk/ProductDetail/Vishay-Dale/CRCW080510K2FKEA?qs=LOX6nxTstibTXRK16X5NEQ%3D%3D; Arrow Part Number: CRCW080510K2FKEA; Arrow Price/Stock: https://www.arrow.com/en/products/crcw080510k2fkea/vishay?region=nac
footprint RESC2012X50N
pins: 1, 2

## CRCW080518K0FKEAC
designator R?, comment 18k
Resistor; Manufacturer_Name: Vishay; Manufacturer_Part_Number: CRCW080518K0FKEAC; Datasheet Link: https://www.arrow.com/en/products/crcw080518k0fkeac/vishay?region=nac; Height: 0.5mm; Mouser Part Number: 71-CRCW080518K0FKEAC; Mouser Price/Stock: https://www.mouser.co.uk/ProductDetail/Vishay-Dale/CRCW080518K0FKEAC?qs=E3Y5ESvWgWPSwNx6fNHotQ%3D%3D; Arrow Part Number: CRCW080518K0FKEAC; Arrow Price/Stock: https://www.arrow.com/en/products/crcw080518k0fkeac/vishay?region=nac
footprint RESC2012X50N
pins: 1, 2

## CRCW080520K0FKEA
designator R?, comment 20k
Resistor; Manufacturer_Name: Vishay; Manufacturer_Part_Number: CRCW080520K0FKEA; Datasheet Link: http://www.vishay.com/docs/20035/dcrcwe3.pdf; Height: 0.5mm; Mouser Part Number: 71-CRCW0805-20K-E3; Mouser Price/Stock: https://www.mouser.co.uk/ProductDetail/Vishay-Dale/CRCW080520K0FKEA?qs=t6Mf8e9K%2Ful9pWSqXxFD1w%3D%3D; Arrow Part Number: CRCW080520K0FKEA; Arrow Price/Stock: https://www.arrow.com/en/products/crcw080520k0fkea/vishay
footprint RESC2012X50N
pins: 1, 2

## CRCW080520K0FKEAC
designator R?, comment 20k
Resistor; Manufacturer_Name: Vishay; Manufacturer_Part_Number: CRCW080520K0FKEAC; Datasheet Link: https://mouser.componentsearchengine.com/Datasheets/1/CRCW080520K0FKEAC.pdf; Height: 0.6mm; Mouser Part Number: 71-CRCW080520K0FKEAC; Mouser Price/Stock: https://www.mouser.co.uk/ProductDetail/Vishay-Dale/CRCW080520K0FKEAC?qs=E3Y5ESvWgWNXVYIsIc630g%3D%3D; Arrow Part Number: CRCW080520K0FKEAC; Arrow Price/Stock: https://www.arrow.com/en/products/crcw080520k0fkeac/vishay
footprint RESC2012X60N
pins: 1, 2

## CRCW080530K0FKEAC
designator R?, comment 30k
Resistor; Manufacturer_Name: Vishay; Manufacturer_Part_Number: CRCW080530K0FKEAC; Datasheet Link: https://mouser.componentsearchengine.com/Datasheets/1/CRCW080530K0FKEAC.pdf; Height: 0.6mm; Mouser Part Number: 71-CRCW080530K0FKEAC; Mouser Price/Stock: https://www.mouser.co.uk/ProductDetail/Vishay-Dale/CRCW080530K0FKEAC?qs=E3Y5ESvWgWMYq9MgiyaMow%3D%3D; Arrow Part Number: CRCW080530K0FKEAC; Arrow Price/Stock: https://www.arrow.com/en/products/crcw080530k0fkeac/vishay?region=nac; ClassName: PowerModul
footprint RESC2012X60N
pins: 1, 2

## CRCW080537K4FKEA
designator R?, comment 37.4k
Resistor; Manufacturer_Name: Vishay; Manufacturer_Part_Number: CRCW080537K4FKEA; Datasheet Link: http://www.vishay.com/docs/20035/dcrcwe3.pdf; Height: 0.5mm; Mouser Part Number: 71-CRCW0805-37.4K-E3; Mouser Price/Stock: https://www.mouser.co.uk/ProductDetail/Vishay-Dale/CRCW080537K4FKEA?qs=ofC1ORbyWJfwcxfoRR0MKw%3D%3D
footprint RESC2012X50N
pins: 1, 2

## CRCW251253K6FKEG
designator R?, comment 53.6k
MF: {'manufacturer': u'Vishay Dale'}; MP: CRCW251253K6FKEG; Package: None; Price: None; Value: *; Availability: Unavailable
footprint RESC6331X70N
pins: 1, 2

## CRCW0402100KFKED
designator R?, comment 100 kΩ
footprint CRCW0402100KFKED
pins: 1, 2

## CRCW0603150KFKEA
designator R?, comment 150 kΩ
footprint CRCW0603150KFKEA
pins: 1, 2

## CRCW0603169KFKEA
designator R?
Resistor; Manufacturer_Name: Vishay; Manufacturer_Part_Number: CRCW0603169KFKEA; Datasheet Link: http://www.vishay.com/docs/20035/dcrcwe3.pdf; Height: 0.5mm; Mouser Part Number: 71-CRCW0603-169K-E3; Mouser Price/Stock: https://www.mouser.co.uk/ProductDetail/Vishay-Dale/CRCW0603169KFKEA?qs=Mig2RDu1Bfp8Hd1hUWkJEw%3D%3D; Arrow Part Number: CRCW0603169KFKEA; Arrow Price/Stock: https://www.arrow.com/en/products/crcw0603169kfkea/vishay
footprint RESC1608X50N
pins: 1, 2

## CRCW0805100RFKEA
designator R?, comment 100
Resistor; Manufacturer_Name: Vishay; Manufacturer_Part_Number: CRCW0805100RFKEA; Datasheet Link: http://www.vishay.com/docs/20035/dcrcwe3.pdf; Height: 0.5mm; Mouser Part Number: 71-CRCW0805-100-E3; Mouser Price/Stock: https://www.mouser.co.uk/ProductDetail/Vishay-Dale/CRCW0805100RFKEA?qs=LOX6nxTstiYDPDKmuLyNLw%3D%3D; Arrow Part Number: CRCW0805100RFKEA; Arrow Price/Stock: https://www.arrow.com/en/products/crcw0805100rfkea/vishay?utm_currency=USD&region=nac
footprint RESC2012X50N
pins: 1, 2

## CRCW0805130KFKEA
designator R?, comment 130k
Resistor; Manufacturer_Name: Vishay; Manufacturer_Part_Number: CRCW0805130KFKEA; Datasheet Link: http://www.vishay.com/docs/20035/dcrcwe3.pdf; Height: 0.5mm; Mouser Part Number: 71-CRCW0805-130K-E3; Mouser Price/Stock: https://www.mouser.co.uk/ProductDetail/Vishay-Dale/CRCW0805130KFKEA?qs=0y7Riw94L4iHKWUxGOctIA%3D%3D; Arrow Part Number: CRCW0805130KFKEA; Arrow Price/Stock: https://www.arrow.com/en/products/crcw0805130kfkea/vishay
footprint RESC2012X50N
pins: 1, 2

## CRCW0805160KFKEAHP
designator R?, comment 160k
Resistor; Manufacturer_Name: Vishay; Manufacturer_Part_Number: CRCW0805160KFKEAHP; Datasheet Link: https://componentsearchengine.com/Datasheets/1/CRCW08051R00FKEAHP.pdf; Height: 0.6mm; ClassName: PowerModul
footprint RESC2012X60N
pins: 1, 2

## CRCW0805174KFKEAC
designator R?, comment 174k
Resistor; Manufacturer_Name: Vishay; Manufacturer_Part_Number: CRCW0805174KFKEAC; Datasheet Link: https://www.vishay.com/docs/28773/crcwce3.pdf; Height: 0.6mm; Mouser Part Number: 71-CRCW0805174KFKEAC; Mouser Price/Stock: https://www.mouser.co.uk/ProductDetail/Vishay-Dale/CRCW0805174KFKEAC?qs=E3Y5ESvWgWPIzoNrwC7WHw%3D%3D
footprint RESC2012X60N
pins: 1, 2

## CRCW0805665KFKEA
designator R?, comment 665k
Resistor; Manufacturer_Name: Vishay; Manufacturer_Part_Number: CRCW0805665KFKEA; Datasheet Link: http://www.vishay.com/docs/20035/dcrcwe3.pdf; Height: 0.5mm
footprint RESC2012X50N
pins: 1, 2

## CRCW0805750RFKEAHP
designator R?, comment 750
Resistor; Manufacturer_Name: Vishay; Manufacturer_Part_Number: CRCW0805750RFKEAHP; Datasheet Link: https://componentsearchengine.com/Datasheets/1/CRCW08051R00FKEAHP.pdf; Height: 0.6mm; Mouser Part Number: 71-CRCW0805750RFKEAH; Mouser Price/Stock: https://www.mouser.co.uk/ProductDetail/Vishay-Dale/CRCW0805750RFKEAHP?qs=40TFAHZMFvdp5ouInDDfaw%3D%3D; Arrow Part Number: CRCW0805750RFKEAHP; Arrow Price/Stock: https://www.arrow.com/en/products/crcw0805750rfkeahp/vishay?region=nac
footprint RESC2012X60N
pins: 1, 2

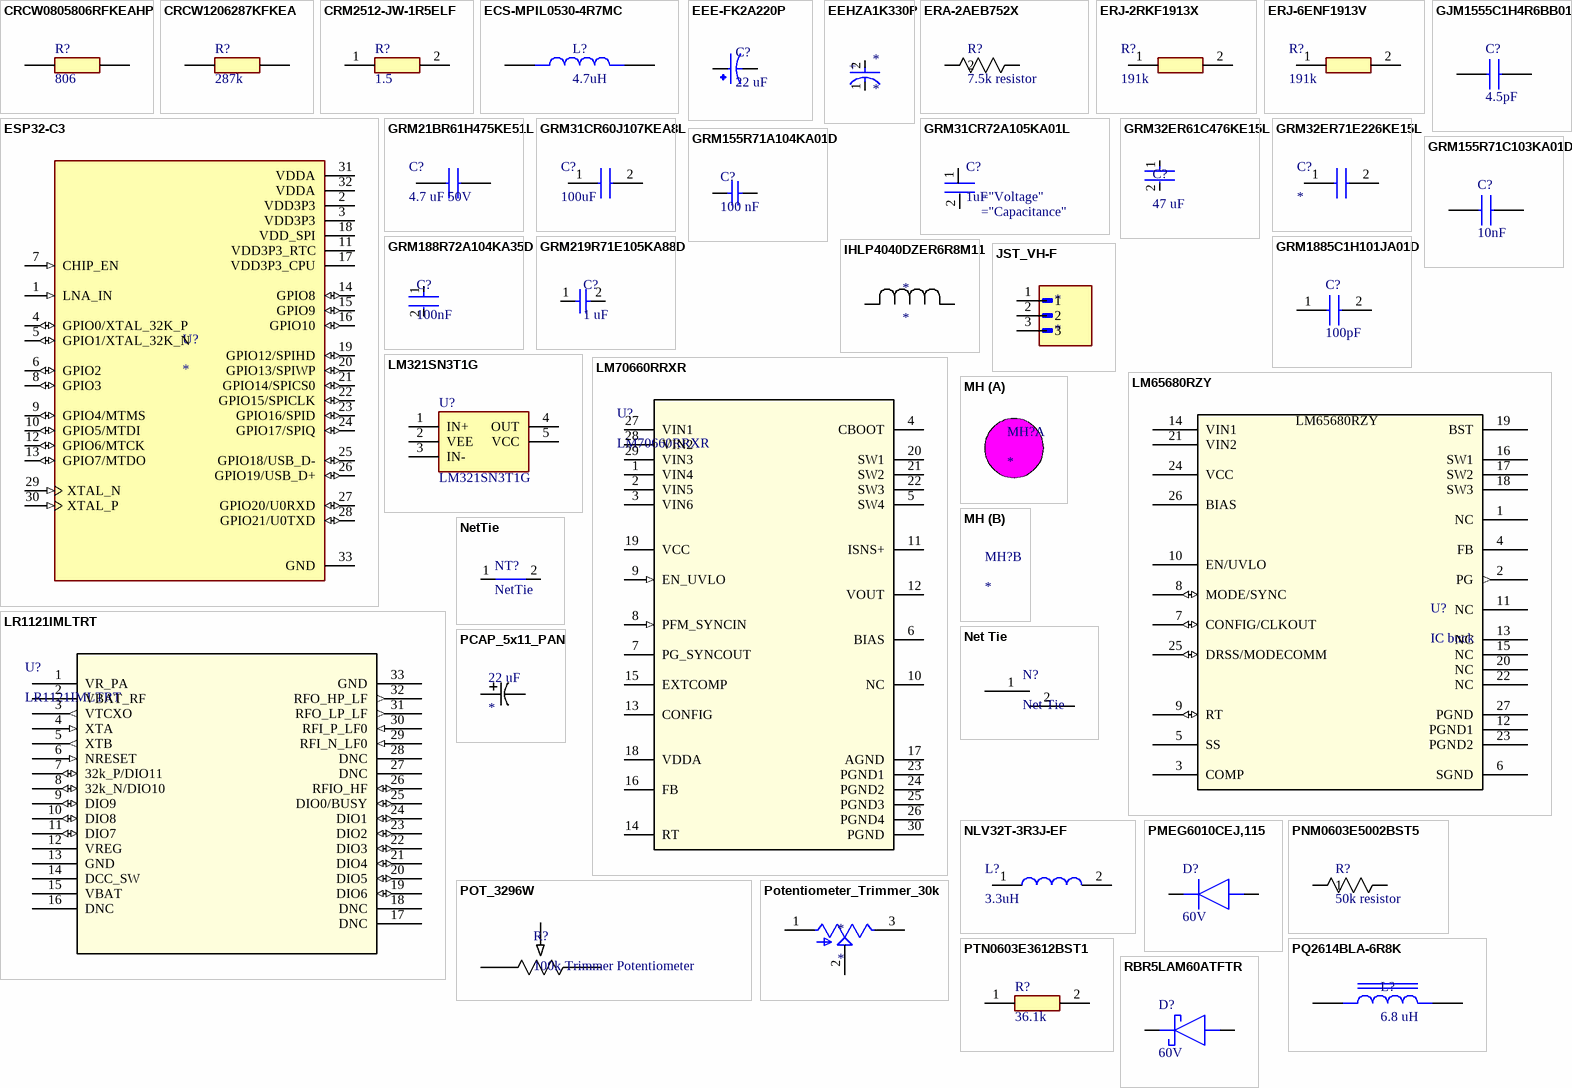
[diagram p2: symbols CRCW0805806RFKEAHP to RBR5LAM60ATFTR]

## CRCW0805806RFKEAHP
designator R?, comment 806
Resistor; Manufacturer_Name: Vishay; Manufacturer_Part_Number: CRCW0805806RFKEAHP; Datasheet Link: https://componentsearchengine.com/Datasheets/1/CRCW08051R00FKEAHP.pdf; Height: 0.6mm
footprint RESC2012X60N
pins: 1, 2

## CRCW1206287KFKEA
designator R?, comment 287k
Resistor; Manufacturer_Name: Vishay; Manufacturer_Part_Number: CRCW1206287KFKEA; Height: 0.6mm; Mouser Part Number: 71-CRCW1206-287K-E3; Mouser Price/Stock: https://www.mouser.com/Search/Refine.aspx?Keyword=71-CRCW1206-287K-E3
footprint RESC3216X60N
pins: 1, 2

## CRM2512-JW-1R5ELF
designator R?, comment 1.5
Resistor 2W; Manufacturer_Name: Bourns; Manufacturer_Part_Number: CRM2512-JW-1R5ELF; Datasheet Link: http://www.bourns.com/data/global/pdfs/CRM0805_1206_2010.pdf; Height: 0.8mm; Mouser Part Number: 652-CRM2512JW1R5ELF; Mouser Price/Stock: https://www.mouser.co.uk/ProductDetail/Bourns/CRM2512-JW-1R5ELF?qs=Zq5ylnUbLm5fOyBG7EkMBA%3D%3D
footprint RESC6331X80N (Footprint not found)
pins: 1, 2

## ECS-MPIL0530-4R7MC
designator L?, comment 4.7uH
Inductor 4.7 µH Shielded Molded  5 A 60mOhm Max Nonstandard -; MF: ECS Inc.; MP: ECS-MPIL0530-4R7MC; SnapEDA_Link: https://www.snapeda.com/parts/ECS-MPIL0530-4R7MC/ECS/view-part/?ref=snap; Package: ECS-MPIL0530-0-2 ECS; Value: *; Check_prices: https://www.snapeda.com/parts/ECS-MPIL0530-4R7MC/ECS/view-part/?ref=eda
footprint IND_ECS-MPIL0530-4R7MC (Footprint not found)
pins: 1, 2

## EEE-FK2A220P
designator C?, comment 22 uF
footprint EEE-FK2A220P
pins: 1, 2

## EEHZA1K330P
designator *
footprint EEHZA1K330P
pins: 1 C, 2 A
text: +

## ERA-2AEB752X
designator R?, comment 7.5k resistor
Resistor 7.5k SMD; ComponentLink1Description: Digikey Link; ComponentLink1URL: https://www.digikey.ca/en/products/detail/panasonic-industry/ERA-2AEB752X/1706026
footprint RES_ERA2AEB750X
pins: 1, 2

## ERJ-2RKF1913X
designator R?, comment 191k
Resistor; Manufacturer_Name: Panasonic; Manufacturer_Part_Number: ERJ-2RKF1913X; Datasheet Link: https://industrial.panasonic.com/cdbs/www-data/pdf/RDA0000/AOA0000C86.pdf; Height: 0.4mm; Mouser Part Number: 667-ERJ-2RKF1913X; Mouser Price/Stock: https://www.mouser.com/Search/Refine.aspx?Keyword=667-ERJ-2RKF1913X; Arrow Part Number: ERJ-2RKF1913X; Arrow Price/Stock: https://www.arrow.com/en/products/erj-2rkf1913x/panasonic
footprint ERJ2RKD1004X
pins: 1, 2

## ERJ-6ENF1913V
designator R?, comment 191k
Resistor; Manufacturer_Name: Panasonic; Manufacturer_Part_Number: ERJ-6ENF1913V; Datasheet Link: https://industrial.panasonic.com/cdbs/www-data/pdf/RDA0000/AOA0000C84.pdf; Height: 0.7mm; Mouser Part Number: 667-ERJ-6ENF1913V; Mouser Price/Stock: https://www.mouser.com/Search/Refine.aspx?Keyword=667-ERJ-6ENF1913V; Arrow Part Number: ERJ-6ENF1913V; Arrow Price/Stock: https://www.arrow.com/en/products/erj-6enf1913v/panasonic
footprint ERJ6ENF1000V
pins: 1, 2

## ESP32-C3
designator U?
WiFi Modules (802.11) (Engineering Samples Only) SMD IC ESP32-C3, RISC-V single-core MCU, 2.4G Wi-Fi & BLE 5.0 combo, QFN 32-pin, 5*5 mm, 40 ~ 105C; MF: Espressif Systems; SnapEDA_Link: https://www.snapeda.com/parts/ESP32-C3/Espressif+Systems/view-part/?ref=snap; Package: VFQFN-32 Espressif Systems; Value: *; MP: ESP32-C3; Check_prices: https://www.snapeda.com/parts/ESP32-C3/Espressif+Systems/view-part/?ref=eda
footprint QFN50P500X500X90-33N
footprint ESP32-C3
pins: 1 LNA_IN (in), 2 VDD3P3 (power), 3 VDD3P3 (power), 4 GPIO0/XTAL_32K_P (io), 5 GPIO1/XTAL_32K_N (io), 6 GPIO2 (io), 7 CHIP_EN (in), 8 GPIO3 (io), 9 GPIO4/MTMS (io), 10 GPIO5/MTDI (io), 11 VDD3P3_RTC (power), 12 GPIO6/MTCK (io), 13 GPIO7/MTDO (io), 14 GPIO8 (io), 15 GPIO9 (io), 16 GPIO10 (io), 17 VDD3P3_CPU (power), 18 VDD_SPI (power), 19 GPIO12/SPIHD (io), 20 GPIO13/SPIWP (io), 21 GPIO14/SPICS0 (io), 22 GPIO15/SPICLK (io), 23 GPIO16/SPID (io), 24 GPIO17/SPIQ (io), 25 GPIO18/USB_D- (io), 26 GPIO19/USB_D+ (io), 27 GPIO20/U0RXD (io), 28 GPIO21/U0TXD (io), 29 XTAL_N (in), 30 XTAL_P (in), 31 VDDA (power), 32 VDDA (power), 33 GND (power)

## GJM1555C1H4R6BB01D
designator C?, comment 4.5pF
Capacitor; Manufacturer_Name: Murata Electronics; Manufacturer_Part_Number: GJM1555C1H4R6BB01D; Datasheet Link: https://search.murata.co.jp/Ceramy/image/img/A01X/G101/ENG/GJM1555C1H4R6BB01-01A.pdf; Height: 0.55mm
footprint CAPC1005X55N
pins: 1, 2

## GRM21BR61H475KE51L
designator C?, comment 4.7 uF 50V
Capacitor; Manufacturer_Name: Murata Electronics; Manufacturer_Part_Number: GRM21BR61H475KE51L; Datasheet Link: https://search.murata.co.jp/Ceramy/image/img/A01X/G101/ENG/GRM21BR61H475KE51-01A.pdf; Height: 1.45mm; Mouser Part Number: 81-GRM21BR61H475KE1L; Mouser Price/Stock: https://www.mouser.co.uk/ProductDetail/Murata-Electronics/GRM21BR61H475KE51L?qs=eeBpzGFlv%252B%252BOtLzDC1PY6Q%3D%3D; Arrow Part Number: GRM21BR61H475KE51L; Arrow Price/Stock: https://www.arrow.com/en/products/grm21br61h475ke51l/murata-manufacturing?region=nac
footprint CAPC2012X145N
pins: 1, 2

## GRM31CR60J107KEA8L
designator C?, comment 100uF
Capacitor; Manufacturer_Name: Murata Electronics; Manufacturer_Part_Number: GRM31CR60J107KEA8L; Datasheet Link: https://search.murata.co.jp/Ceramy/image/img/A01X/G101/ENG/GRM31CR60J107KEA8-01A.pdf; Height: 1.25mm; Mouser Part Number: 81-GRM31CR60J107KE8L; Mouser Price/Stock: https://www.mouser.co.uk/ProductDetail/Murata-Electronics/GRM31CR60J107KEA8L?qs=pUKx8fyJudDzdyEEakAKPA%3D%3D; Arrow Part Number: GRM31CR60J107KEA8L; Arrow Price/Stock: https://www.arrow.com/en/products/grm31cr60j107kea8l/murata-manufacturing?utm_currency=USD&region=europe
footprint GRM31x
pins: 1, 2

## GRM31CR72A105KA01L
designator C?, comment 1uF
footprint GRM31CR72A105KA01L
pins: 1, 2

## GRM32ER61C476KE15L
designator C?, comment 47 uF
footprint GRM32ER61C476KE15L
pins: 1, 2

## GRM32ER71E226KE15L
designator C?
Capacitor; Manufacturer_Name: Murata Electronics; Manufacturer_Part_Number: GRM32ER71E226KE15L; Datasheet Link: https://search.murata.co.jp/Ceramy/image/img/A01X/G101/ENG/GRM32ER71E226KE15-04CA.pdf; Height: 1.5mm; Mouser Part Number: 81-GRM32ER71E226KE5L; Mouser Price/Stock: https://www.mouser.co.uk/ProductDetail/Murata-Electronics/GRM32ER71E226KE15L?qs=xcCo%252BfWZmQXyfoWprNNimw%3D%3D; Arrow Part Number: GRM32ER71E226KE15L; Arrow Price/Stock: https://www.arrow.com/en/products/grm32er71e226ke15l/murata-manufacturing?utm_currency=USD&region=nac
footprint G-32_MUR
footprint G-32_MUR-L
footprint G-32_MUR-M
pins: 1, 2

## GRM155R71A104KA01D
designator C?, comment 100 nF
footprint GRM155R71A104KA01D
pins: 1, 2

## GRM155R71C103KA01D
designator C?, comment 10nF
Capacitor; Manufacturer_Name: Murata Electronics; Manufacturer_Part_Number: GRM155R71C103KA01D; Datasheet Link: https://search.murata.co.jp/Ceramy/image/img/A01X/G101/ENG/GRM155R71C103KA01-01A.pdf; Height: 0.7mm; Mouser Part Number: 81-GRM36X103K16; Mouser Price/Stock: https://www.mouser.co.uk/ProductDetail/Murata-Electronics/GRM155R71C103KA01D?qs=8YPuuxuUzMI%252B9QLnzeLwhQ%3D%3D; Arrow Part Number: GRM155R71C103KA01D; Arrow Price/Stock: https://www.arrow.com/en/products/grm155r71c103ka01d/murata-manufacturing?utm_currency=USD&region=nac
footprint CAPC1005X70N
pins: 1, 2

## GRM188R72A104KA35D
designator C?, comment 100nF
footprint GRM188R72A104KA35D
pins: 1, 2

## GRM219R71E105KA88D
designator C?, comment 1 uF
footprint GRM219R71E105KA88D
pins: 1, 2

## GRM1885C1H101JA01D
designator C?, comment 100pF
Capacitor; Manufacturer_Name: Murata Electronics; Manufacturer_Part_Number: GRM1885C1H101JA01D; Datasheet Link: https://search.murata.co.jp/Ceramy/image/img/A01X/G101/ENG/GRM1885C1H101JA01-01A.pdf; Height: 0.9mm; Mouser Part Number: 81-GRM39C101J50; Mouser Price/Stock: https://www.mouser.co.uk/ProductDetail/Murata-Electronics/GRM1885C1H101JA01D?qs=H3lwsW1hsDt1I4guwPQ00A%3D%3D; Arrow Part Number: GRM1885C1H101JA01D; Arrow Price/Stock: https://www.arrow.com/en/products/grm1885c1h101ja01d/murata-manufacturing?utm_currency=USD&region=europe
footprint GRM1885C1H101JA01D (Footprint not found)
pins: 1, 2

## IHLP4040DZER6R8M11
designator *
Inductance 6.8uF 7.5V Isat; ComponentLink1Description: Manufacturer Link; ComponentLink1URL: https://www.digikey.ca/en/products/detail/vishay-dale/IHLP4040DZER6R8M11/1220708
footprint IND_IHLP-4040DZ_VIS
pins: 1, 2

## JST_VH-F
designator *
footprint JST_B3P-VH(LF)(SN)
pins: 1, 2, 3

## LM321SN3T1G
designator U?
Integrated Circuit; Manufacturer_Name: onsemi; Datasheet Link: https://www.onsemi.com/pub/Collateral/LM321-D.PDF; Height: 1.1mm; Manufacturer_Part_Number: LM321SN3T1G; Mouser Part Number: 863-LM321SN3T1G; Mouser Price/Stock: https://www.mouser.co.uk/ProductDetail/onsemi/LM321SN3T1G?qs=slMPpRTKD5qNVsCzBsHVZA%3D%3D; Arrow Part Number: LM321SN3T1G; Arrow Price/Stock: https://www.arrow.com/en/products/lm321sn3t1g/on-semiconductor?utm_currency=USD&region=nac
footprint SOT95P275X110-5N
pins: 1 IN+, 2 VEE, 3 IN-, 4 OUT, 5 VCC

## LM65680RZY
designator U?, comment IC buck
footprint LM65680RZYR
pins: 1 NC, 2 PG (out), 3 COMP, 4 FB, 5 SS, 6 SGND (power), 7 CONFIG/CLKOUT (io), 8 MODE/SYNC (io), 9 RT (io), 10 EN/UVLO (power), 11 NC, 12 PGND1 (power), 13 NC, 14 VIN1 (power), 15 NC, 16 SW1 (power), 17 SW2 (power), 18 SW3 (power), 19 BST (power), 20 NC, 21 VIN2 (power), 22 NC, 23 PGND2 (power), 24 VCC (power), 25 DRSS/MODECOMM (io), 26 BIAS (power), 27 PGND (power)

## LM70660RRXR
designator U?
High-density, 4.5V to 65V input, 6A low-EMI synchronous DC/DC step-down converter 29-VQFN -40 to 150; Manufacturer_Name: Texas Instruments; TYPE: TYPE; RefDes: RefDes; Copyright: Copyright (C) 2025 Ultra Librarian. All rights reserved.; Manufacturer_Part_Number: LM70660RRXR
footprint RRX0029B-MFG
pins: 1 VIN4 (power), 2 VIN5 (power), 3 VIN6 (power), 4 CBOOT, 5 SW4, 6 BIAS (power), 7 PG_SYNCOUT (oc), 8 PFM_SYNCIN (in), 9 EN_UVLO (in), 10 NC, 11 ISNS+, 12 VOUT, 13 CONFIG, 14 RT, 15 EXTCOMP, 16 FB, 17 AGND (power), 18 VDDA (power), 19 VCC (power), 20 SW1, 21 SW2, 22 SW3, 23 PGND1 (power), 24 PGND2 (power), 25 PGND3 (power), 26 PGND4 (power), 27 VIN1 (power), 28 VIN2 (power), 29 VIN3 (power), 30 PGND (power)

## LR1121IMLTRT
designator U?
Description; Manufacturer_Name: Semtech; Type: RF; Copyright: Copyright (C) 2025 Ultra Librarian. All rights reserved.; Manufacturer_Part_Number: LR1121IMLTRT; RefDes: RefDes
footprint QFN32_5X5_MLP_SEM
footprint LR1121 A
pins: 1 VR_PA (power), 2 VBAT_RF (power), 3 VTCXO (out), 4 XTA (in), 5 XTB (out), 6 NRESET (in), 7 32k_P/DIO11 (io), 8 32k_N/DIO10 (io), 9 DIO9 (io), 10 DIO8 (io), 11 DIO7 (io), 12 VREG (power), 13 GND (power), 14 DCC_SW (power), 15 VBAT (power), 16 DNC, 17 DNC, 18 DNC, 19 DIO6 (io), 20 DIO5 (io), 21 DIO4 (io), 22 DIO3 (io), 23 DIO2 (io), 24 DIO1 (io), 25 DIO0/BUSY (io), 26 RFIO_HF (io), 27 DNC, 28 DNC, 29 RFI_N_LF0 (in), 30 RFI_P_LF0 (in), 31 RFO_LP_LF (out), 32 RFO_HP_LF (out), 33 GND (power)

## MH
designator MH?
Mounting Hole
footprint MH - Footprint

## Net Tie
designator N?  (net tie)
Connect different ground planes in a single point without creating a short circuit
footprint NetTie
pins: 1, 2

## NetTie
designator NT?  (net tie, no BOM)
Net Tie
footprint NetTie
pins: 1, 2  

## NLV32T-3R3J-EF
designator L?, comment 3.3uH
Inductor; Manufacturer_Name: TDK; Manufacturer_Part_Number: NLV32T-3R3J-EF; Datasheet Link: https://product.tdk.com/system/files/dam/doc/product/inductor/inductor/smd/catalog/inductor_commercial_standard_nlv32-ef_en.pdf; Height: 2.4mm
footprint INDM3225X240N
pins: 1, 2

## PCAP_5x11_PAN
designator 22 uF
Capacitor 22 uF 50 V ceramic; ComponentLink1Description: Manufacturer Link; ComponentLink1URL: https://www.mouser.ca/ProductDetail/Panasonic/ECA-1HM220?qs=mOGBRmbwDOzRMS24%2FybJXQ%3D%3D&srsltid=AfmBOopb9JGBloTY9lbmq_fpA0KWD3lAmYC4FSDjRqr-i890aCtYsJNQ
footprint PCAP_5x11_PAN
pins: 1, 2

## PMEG6010CEJ,115
designator D?, comment 60V
Diode; Manufacturer_Name: Nexperia; Manufacturer_Part_Number: PMEG6010CEJ,115; Datasheet Link: https://assets.nexperia.com/documents/data-sheet/PMEG6010CEH_PMEG6010CEJ.pdf; Height: 0.8mm; Mouser Part Number: 771-PMEG6010CEJ-T/R; Mouser Price/Stock: https://www.mouser.co.uk/ProductDetail/Nexperia/PMEG6010CEJ115?qs=LOCUfHb8d9sJWWkUvN790w%3D%3D; Arrow Part Number: PMEG6010CEJ,115; Arrow Price/Stock: https://www.arrow.com/en/products/pmeg6010cej115/nexperia?region=nac
footprint SODFL2512X80N
pins: 1 K, 2 A

## PNM0603E5002BST5
designator R?, comment 50k resistor
Resistor 50k SMD Vishay; ComponentLink1Description: Digikey Link; ComponentLink1URL: https://www.digikey.ca/en/products/detail/vishay-dale-thin-film/PNM0603E5002BST5/2120326
footprint 0603_VIS
pins: 1, 2

## POT_3296W
designator R?, comment 100k Trimmer Potentiometer
Potentiometer Trimmer 100k 0.5W Bourns Inc.; ComponentLink1Description: Digikey Link; ComponentLink1URL: https://www.digikey.com/en/models/1088046?tab=ultralibrarian&__cf_chl_f_tk=c8yjf4a1BgyeIyFMtf7L7oJCVpmx04sr2.XMLxTJ8fg-1783204787-1.0.1.1-ttodLl3L4HWnkYgtUBVbDswl7HkZanjKcL0_xm29rXc
footprint POT_3296W
pins: 1, 2, 3

## Potentiometer_Trimmer_30k
designator *
footprint TRIM_3362P-1-303LF
pins: 1 CCW, 2 WIPER, 3 CW

## PQ2614BLA-6R8K
designator L?, comment 6.8 uH
footprint PQ2614BLA-6R8K
pins: 1, 2